# Altium footprint library neutrik-connectors.PcbLib: 1 footprints
Each footprint in its own frame and in the unit in brackets; x right, y up, seen from the top. Pads: shape width x height; smd on the part's side, far side on the other; paste and mask are expansions set on the pad; w line width, h text height; cw(c..) or ccw(c..) is an arc to the next point about the centre after c.
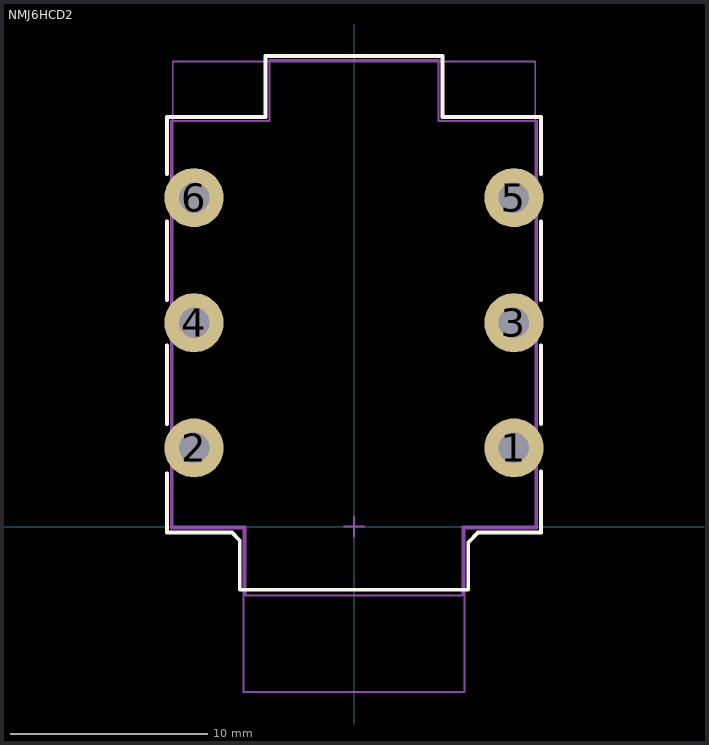
[diagram p0: the footprint, top view; thin cyan lines are the x and y axes]

## NMJ6HCD2 [mm] "Jack 1/4\" stereo"
height 15.67
pads (6):
  round 3 hole 1.55: 1(8.12,4) 2(-8.12,4) 3(8.12,10.35) 4(-8.12,10.35) 5(8.12,16.7) 6(-8.12,16.7)
Top Overlay:
  lines w0.2: -9.5,2.7 -9.5,-0.3 -6.2,-0.3 -5.8,-0.7 -5.8,-3.2 5.8,-3.2 5.8,-0.8 6.3,-0.3 9.5,-0.3 9.5,2.8 ; -9.5,5.2 -9.5,9.2 ; -9.5,11.5 -9.5,15.5 ; -9.5,17.9 -9.5,20.8 -4.5,20.8 -4.5,23.9 4.5,23.9 4.5,20.8 9.5,20.8 9.5,17.9 ; 9.5,5.2 9.5,9.2 ; 9.5,11.5 9.5,15.5
Mechanical 13:
  lines w0.1: -0.5,0 0.5,0 ; 0,-0.5 0,0.5 ; 9.3,20.6 9.3,-0.1 5.6,-0.1 5.6,-8.4 -5.6,-8.4 -5.6,-0.1 -9.3,-0.1 -9.3,20.6 -4.3,20.6 -4.3,23.7 4.3,23.7 4.3,20.6 9.3,20.6 ; 9.3,20.6 9.3,20.6
Mechanical 15:
  lines w0.1: -9.2,0 -9.2,23.6 9.2,23.6 9.2,0 5.5,0 5.5,-3.5 -5.5,-3.5 -5.5,0 -9.2,0
  text ".Designator" at -2.2,3.6 h0.8
3D body: height 15.96, standoff -3.98, extent -9.1,-8.294 9.1,23.5